# Altium schematic symbol library OpAmp_Current_Sense.SchLib: 1 symbol
Pins are listed as number, name and electrical type; pins without a type are passive.

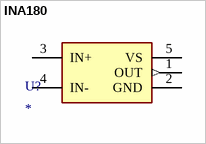
[diagram p0: symbol INA180]

## INA180
designator U?
Manufacturer 1: *; Manufacturer Part Number 1: *; Package: SOT23-5; Supplier 1: *; Supplier Part Number 1: *; ERP: *; Value: *
footprint INA180
pins: 1 OUT (out), 2 GND (power), 3 IN+, 4 IN-, 5 VS (power)